# Altium footprint library Footprint_MCU.PcbLib: 7 footprints
Each footprint in its own frame and in the unit in brackets; x right, y up, seen from the top. Pads: shape width x height; smd on the part's side, far side on the other; paste and mask are expansions set on the pad; w line width, h text height; cw(c..) or ccw(c..) is an arc to the next point about the centre after c.
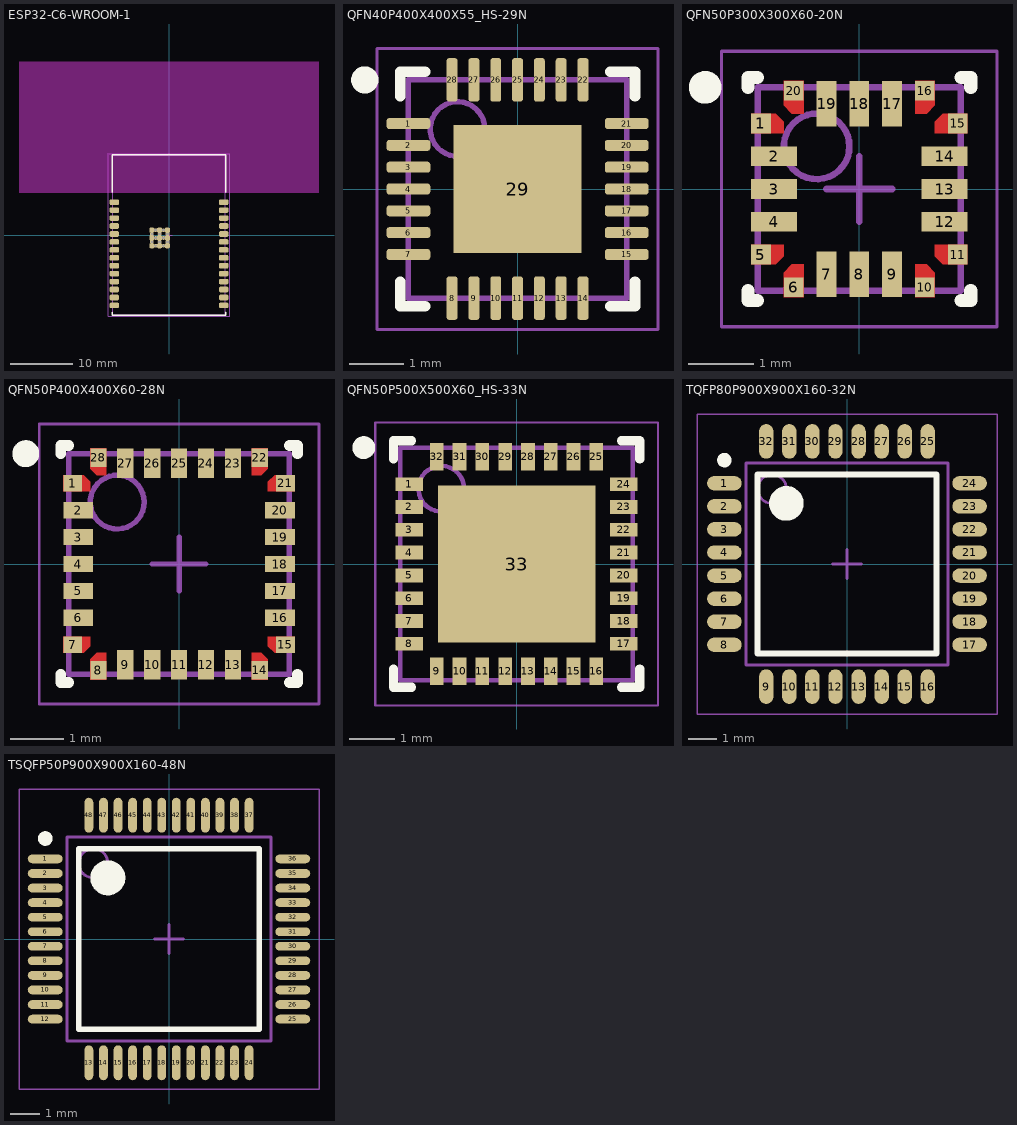
[diagram p0: the footprints below, top view; thin cyan lines are the x and y axes]

## ESP32-C6-WROOM-1 [mm]
pads (51):
  rrect50% 1.5x0.9 smd: 1(-8.75,5.26) 2(-8.75,3.99) 3(-8.75,2.72) 4(-8.75,1.45) 5(-8.75,0.18) 6(-8.75,-1.09) 7(-8.75,-2.36) 8(-8.75,-3.63) 9(-8.75,-4.9) 10(-8.75,-6.17) 11(-8.75,-7.44) 12(-8.75,-8.71) 13(-8.75,-9.98) 14(-8.75,-11.25) 14(-8.75,-11.25) 15(8.75,-11.25) 15(8.75,-11.25) 16(8.75,-9.98) 17(8.75,-8.71) 18(8.75,-7.44) 19(8.75,-6.17) 20(8.75,-4.9) 21(8.75,-3.63) 22(8.75,-2.36) 23(8.75,-1.09) 24(8.75,0.18) 25(8.75,1.45) 26(8.75,2.72) 27(8.75,3.99) 28(8.75,5.26)
  rrect50% 0.8x0.8 smd: 29(-2.755,-1.71) 29(-2.755,-0.46) 29(-2.755,0.79) 29(-1.505,-1.71) 29(-1.505,-0.46) 29(-1.505,0.79) 29(-0.255,-1.71) 29(-0.255,-0.46) 29(-0.255,0.79)
  round 0.6 hole 0.3 mask+0.102: 29(-2.755,-1.085) 29(-2.755,0.165) 29(-2.13,-1.71) 29(-2.13,-0.46) 29(-2.13,0.79) 29(-1.505,-1.085) 29(-1.505,0.165) 29(-0.88,-1.71) 29(-0.88,-0.46) 29(-0.88,0.79) 29(-0.255,-1.085) 29(-0.255,0.165)
Top Overlay:
  lines w0.254: -9.1,-12.35 -9.1,-12.85 9.1,-12.85 9.1,-12.35 ; -9.1,6.86 -9.1,12.85 9.1,12.85 9.1,6.86
Keep-Out Layer:
  rectangle: -24,6.75 24,27.75
Assembly Top:
  lines w0.1: -9,-12.75 9,-12.75 9,12.75 -9,12.75 -9,-12.75
  text ".Designator" at -9.25,-1.5 h1.78
Courtyard Top:
  lines w0.05: -9.75,-13 -9.75,13 9.75,13 9.75,-13 -9.75,-13
  lines w0.1: -0.5,0 0.5,0 ; 0,-0.5 0,0.5
3D body "ESP32-C6-WROOM-1.STEP": height 3.16, standoff 0, extent -9,-12.75 9,12.75

## QFN40P400X400X55_HS-29N [mm] "QFN, 28-Leads, Body 4.00x4.00mm, Pitch 0.40mm, Thermal Pad 2.35x2.35mm, IPC Medium Density"
height 0.55
pads (29):
  rrect50% 0.8x0.2 smd: 1(-2,1.2) 2(-2,0.8) 3(-2,0.4) 4(-2,0) 5(-2,-0.4) 6(-2,-0.8) 7(-2,-1.2) 15(2,-1.2) 16(2,-0.8) 17(2,-0.4) 18(2,0) 19(2,0.4) 20(2,0.8) 21(2,1.2)
  rrect50% 0.2x0.8 smd: 8(-1.2,-2) 9(-0.8,-2) 10(-0.4,-2) 11(0,-2) 12(0.4,-2) 13(0.8,-2) 14(1.2,-2) 22(1.2,2) 23(0.8,2) 24(0.4,2) 25(0,2) 26(-0.4,2) 27(-0.8,2) 28(-1.2,2)
  rect 2.35x2.35 smd: 29(0,0)
Top Overlay:
  circle w0.25: c-2.8,2 r0.125
  lines w0.2: -2.15,-1.7 -2.15,-2.15 -1.7,-2.15 ; -2.15,1.7 -2.15,2.15 -1.7,2.15 ; 1.7,-2.15 2.15,-2.15 2.15,-1.7 ; 1.7,2.15 2.15,2.15 2.15,1.7
Assembly Top:
  circle w0.1: c-1.1,1.1 r0.5
  lines w0.1: -2,-2 -2,2 2,2 2,-2 -2,-2
  text ".Designator" at -7.8,-1.25 h0.76
Courtyard Top:
  lines w0.05: -2.575,-2.575 -2.575,2.575 2.575,2.575 2.575,-2.575 -2.575,-2.575
  lines w0.1: -0.5,0 0.5,0 ; 0,-0.5 0,0.5
3D body "QFN40P400X400X55_HS-29N.step": height 0.55, standoff 0, extent -2.001,-2.001 2.001,2.001

## QFN50P300X300X60-20N [mm] "QFN, 20-Leads, Body 3.00x3.00mm, Pitch 0.50mm, IPC Medium Density"
height 0.6
pads (20):
  rect 0.3x0.3 smd: 1(-1.5,1) 5(-1.5,-1) 6(-1,-1.5) 10(1,-1.5) 11(1.5,-1) 15(1.5,1) 16(1,1.5) 20(-1,1.5)
  rect 0.7x0.3 smd: 2(-1.3,0.5) 3(-1.3,0) 4(-1.3,-0.5) 12(1.3,-0.5) 13(1.3,0) 14(1.3,0.5)
  rect 0.3x0.7 smd: 7(-0.5,-1.3) 8(0,-1.3) 9(0.5,-1.3) 17(0.5,1.3) 18(0,1.3) 19(-0.5,1.3)
Top Layer:
  region: -1.65,-0.85 -1.15,-0.85 -1.15,-1.026 -1.274,-1.15 -1.65,-1.15
  region: -0.85,-1.65 -0.85,-1.15 -1.026,-1.15 -1.15,-1.274 -1.15,-1.65
  region: 0.85,-1.65 0.85,-1.15 1.026,-1.15 1.15,-1.274 1.15,-1.65
  region: 1.65,0.85 1.15,0.85 1.15,1.026 1.274,1.15 1.65,1.15
  region: 0.85,1.65 0.85,1.15 1.026,1.15 1.15,1.274 1.15,1.65
  region: -0.85,1.65 -0.85,1.15 -1.026,1.15 -1.15,1.274 -1.15,1.65
  region: -1.65,0.85 -1.15,0.85 -1.15,1.026 -1.274,1.15 -1.65,1.15
  region: 1.65,-0.85 1.15,-0.85 1.15,-1.026 1.274,-1.15 1.65,-1.15
Top Overlay:
  circle w0.25: c-2.35,1.55 r0.125
  lines w0.2: -1.7,-1.55 -1.7,-1.7 -1.55,-1.7 ; -1.7,1.55 -1.7,1.7 -1.55,1.7 ; 1.55,-1.7 1.7,-1.7 1.7,-1.55 ; 1.55,1.7 1.7,1.7 1.7,1.55
Assembly Top:
  circle w0.1: c-0.65,0.65 r0.5
  lines w0.1: -1.55,-1.55 -1.55,1.55 1.55,1.55 1.55,-1.55 -1.55,-1.55
  text ".Designator" at -7.8,-1.25 h0.76
Courtyard Top:
  lines w0.05: -2.1,-2.1 -2.1,2.1 2.1,2.1 2.1,-2.1 -2.1,-2.1
  lines w0.1: -0.5,0 0.5,0 ; 0,-0.5 0,0.5
3D body "QFN50P300X300X60-20N.step": height 0.6, standoff 0, extent -1.551,-1.551 1.551,1.551

## QFN50P400X400X60-28N [mm] "QFN, 28-Leads, Body 4.00x4.00mm, Pitch 0.50mm, IPC Medium Density"
height 0.6
pads (28):
  rect 0.35x0.3 smd: 1(-1.975,1.5) 7(-1.975,-1.5) 15(1.975,-1.5) 21(1.975,1.5)
  rect 0.55x0.3 smd: 2(-1.875,1) 3(-1.875,0.5) 4(-1.875,0) 5(-1.875,-0.5) 6(-1.875,-1) 16(1.875,-1) 17(1.875,-0.5) 18(1.875,0) 19(1.875,0.5) 20(1.875,1)
  rect 0.3x0.35 smd: 8(-1.5,-1.975) 14(1.5,-1.975) 22(1.5,1.975) 28(-1.5,1.975)
  rect 0.3x0.55 smd: 9(-1,-1.875) 10(-0.5,-1.875) 11(0,-1.875) 12(0.5,-1.875) 13(1,-1.875) 23(1,1.875) 24(0.5,1.875) 25(0,1.875) 26(-0.5,1.875) 27(-1,1.875)
Top Layer:
  region: 2.15,1.35 1.65,1.35 1.65,1.526 1.774,1.65 2.15,1.65
  region: 2.15,-1.35 1.65,-1.35 1.65,-1.526 1.774,-1.65 2.15,-1.65
  region: -1.35,2.15 -1.35,1.65 -1.526,1.65 -1.65,1.774 -1.65,2.15
  region: -1.35,-2.15 -1.35,-1.65 -1.526,-1.65 -1.65,-1.774 -1.65,-2.15
  region: 1.35,-2.15 1.35,-1.65 1.526,-1.65 1.65,-1.774 1.65,-2.15
  region: 1.35,2.15 1.35,1.65 1.526,1.65 1.65,1.774 1.65,2.15
  region: -2.15,-1.35 -1.65,-1.35 -1.65,-1.526 -1.774,-1.65 -2.15,-1.65
  region: -2.15,1.35 -1.65,1.35 -1.65,1.526 -1.774,1.65 -2.15,1.65
Top Overlay:
  circle w0.25: c-2.85,2.05 r0.125
  lines w0.2: -2.2,-2.05 -2.2,-2.2 -2.05,-2.2 ; -2.2,2.05 -2.2,2.2 -2.05,2.2 ; 2.05,-2.2 2.2,-2.2 2.2,-2.05 ; 2.05,2.2 2.2,2.2 2.2,2.05
Assembly Top:
  circle w0.1: c-1.15,1.15 r0.5
  lines w0.1: -2.05,-2.05 -2.05,2.05 2.05,2.05 2.05,-2.05 -2.05,-2.05
  text ".Designator" at -7.8,-1.25 h0.76
Courtyard Top:
  lines w0.05: -2.6,-2.6 -2.6,2.6 2.6,2.6 2.6,-2.6 -2.6,-2.6
  lines w0.1: -0.5,0 0.5,0 ; 0,-0.5 0,0.5
3D body "QFN50P400X400X60-28N.step": height 0.6, standoff 0, extent -2.051,-2.051 2.051,2.051

## QFN50P500X500X60_HS-33N [mm] "QFN, 32-Leads, Body 5.00x5.00mm, Pitch 0.50mm, Thermal Pad 3.45x3.45mm, IPC Medium Density"
height 0.6
pads (33):
  rect 0.6x0.3 smd: 1(-2.35,1.75) 2(-2.35,1.25) 3(-2.35,0.75) 4(-2.35,0.25) 5(-2.35,-0.25) 6(-2.35,-0.75) 7(-2.35,-1.25) 8(-2.35,-1.75) 17(2.35,-1.75) 18(2.35,-1.25) 19(2.35,-0.75) 20(2.35,-0.25) 21(2.35,0.25) 22(2.35,0.75) 23(2.35,1.25) 24(2.35,1.75)
  rect 0.3x0.6 smd: 9(-1.75,-2.35) 10(-1.25,-2.35) 11(-0.75,-2.35) 12(-0.25,-2.35) 13(0.25,-2.35) 14(0.75,-2.35) 15(1.25,-2.35) 16(1.75,-2.35) 25(1.75,2.35) 26(1.25,2.35) 27(0.75,2.35) 28(0.25,2.35) 29(-0.25,2.35) 30(-0.75,2.35) 31(-1.25,2.35) 32(-1.75,2.35)
  rect 3.45x3.45 smd: 33(0,0)
Top Overlay:
  circle w0.25: c-3.35,2.55 r0.125
  lines w0.2: -2.7,-2.3 -2.7,-2.7 -2.3,-2.7 ; -2.7,2.3 -2.7,2.7 -2.3,2.7 ; 2.3,-2.7 2.7,-2.7 2.7,-2.3 ; 2.3,2.7 2.7,2.7 2.7,2.3
Assembly Top:
  circle w0.1: c-1.65,1.65 r0.5
  lines w0.1: -2.55,-2.55 -2.55,2.55 2.55,2.55 2.55,-2.55 -2.55,-2.55
  text ".Designator" at -7.8,-1.25 h0.76
Courtyard Top:
  lines w0.05: -3.1,-3.1 -3.1,3.1 3.1,3.1 3.1,-3.1 -3.1,-3.1
  lines w0.1: -0.5,0 0.5,0 ; 0,-0.5 0,0.5
3D body "QFN50P500X500X60_HS-33N.step": height 0.6, standoff 0, extent -2.551,-2.551 2.551,2.551

## TQFP80P900X900X160-32N [mm] "TQFP, 32-Leads, Body 7.00x7.00mm, Pitch 0.80mm, IPC Medium Density"
height 1.6
pads (32):
  oval 1.2x0.5 smd: 1(-4.25,2.8) 2(-4.25,2) 3(-4.25,1.2) 4(-4.25,0.4) 5(-4.25,-0.4) 6(-4.25,-1.2) 7(-4.25,-2) 8(-4.25,-2.8) 17(4.25,-2.8) 18(4.25,-2) 19(4.25,-1.2) 20(4.25,-0.4) 21(4.25,0.4) 22(4.25,1.2) 23(4.25,2) 24(4.25,2.8)
  oval 0.5x1.2 smd: 9(-2.8,-4.25) 10(-2,-4.25) 11(-1.2,-4.25) 12(-0.4,-4.25) 13(0.4,-4.25) 14(1.2,-4.25) 15(2,-4.25) 16(2.8,-4.25) 25(2.8,4.25) 26(2,4.25) 27(1.2,4.25) 28(0.4,4.25) 29(-0.4,4.25) 30(-1.2,4.25) 31(-2,4.25) 32(-2.8,4.25)
Top Overlay:
  circle w0.6: c-2.1,2.1 r0.3
  circle w0.25: c-4.25,3.6 r0.125
  lines w0.2: -3.1,-3.1 3.1,-3.1 3.1,3.1 -3.1,3.1 -3.1,-3.1
Assembly Top:
  circle w0.1: c-2.6,2.6 r0.5
  lines w0.1: -3.5,-3.5 3.5,-3.5 3.5,3.5 -3.5,3.5 -3.5,-3.5
  text ".Designator" at -7.8,-1.25 h0.76
Courtyard Top:
  lines w0.05: -5.2,-5.2 5.2,-5.2 5.2,5.2 -5.2,5.2 -5.2,-5.2
  lines w0.1: -0.5,0 0.5,0 ; 0,-0.5 0,0.5
3D body "TQFP80P900X900X160-32N.step": height 1.6, standoff 0, extent -4.5,-4.5 4.5,4.5

## TSQFP50P900X900X160-48N [mm] "TSQFP, 48-Leads, Body 7.00x7.00mm, Pitch 0.50mm, IPC Medium Density"
height 1.6
pads (48):
  oval 1.2x0.3 smd: 1(-4.25,2.75) 2(-4.25,2.25) 3(-4.25,1.75) 4(-4.25,1.25) 5(-4.25,0.75) 6(-4.25,0.25) 7(-4.25,-0.25) 8(-4.25,-0.75) 9(-4.25,-1.25) 10(-4.25,-1.75) 11(-4.25,-2.25) 12(-4.25,-2.75) 25(4.25,-2.75) 26(4.25,-2.25) 27(4.25,-1.75) 28(4.25,-1.25) 29(4.25,-0.75) 30(4.25,-0.25) 31(4.25,0.25) 32(4.25,0.75) 33(4.25,1.25) 34(4.25,1.75) 35(4.25,2.25) 36(4.25,2.75)
  oval 0.3x1.2 smd: 13(-2.75,-4.25) 14(-2.25,-4.25) 15(-1.75,-4.25) 16(-1.25,-4.25) 17(-0.75,-4.25) 18(-0.25,-4.25) 19(0.25,-4.25) 20(0.75,-4.25) 21(1.25,-4.25) 22(1.75,-4.25) 23(2.25,-4.25) 24(2.75,-4.25) 37(2.75,4.25) 38(2.25,4.25) 39(1.75,4.25) 40(1.25,4.25) 41(0.75,4.25) 42(0.25,4.25) 43(-0.25,4.25) 44(-0.75,4.25) 45(-1.25,4.25) 46(-1.75,4.25) 47(-2.25,4.25) 48(-2.75,4.25)
Top Overlay:
  circle w0.25: c-4.25,3.45 r0.125
  circle w0.6: c-2.1,2.1 r0.3
  lines w0.2: -3.1,-3.1 -3.1,3.1 3.1,3.1 3.1,-3.1 -3.1,-3.1
Assembly Top:
  circle w0.1: c-2.6,2.6 r0.5
  lines w0.1: -3.5,-3.5 -3.5,3.5 3.5,3.5 3.5,-3.5 -3.5,-3.5
  text ".Designator" at -7.8,-1.25 h0.76
Courtyard Top:
  lines w0.05: -5.15,-5.15 -5.15,5.15 5.15,5.15 5.15,-5.15 -5.15,-5.15
  lines w0.1: -0.5,0 0.5,0 ; 0,-0.5 0,0.5
3D body "TSQFP50P900X900X160-48N.step": height 1.6, standoff 0, extent -4.5,-4.5 4.5,4.5